# Altium footprint library 贴片.PcbLib: 161 footprints (part 11 of 11)
Each footprint in its own frame and in the unit in brackets; x right, y up, seen from the top. Pads: shape width x height; smd on the part's side, far side on the other; paste and mask are expansions set on the pad; w line width, h text height; cw(c..) or ccw(c..) is an arc to the next point about the centre after c.
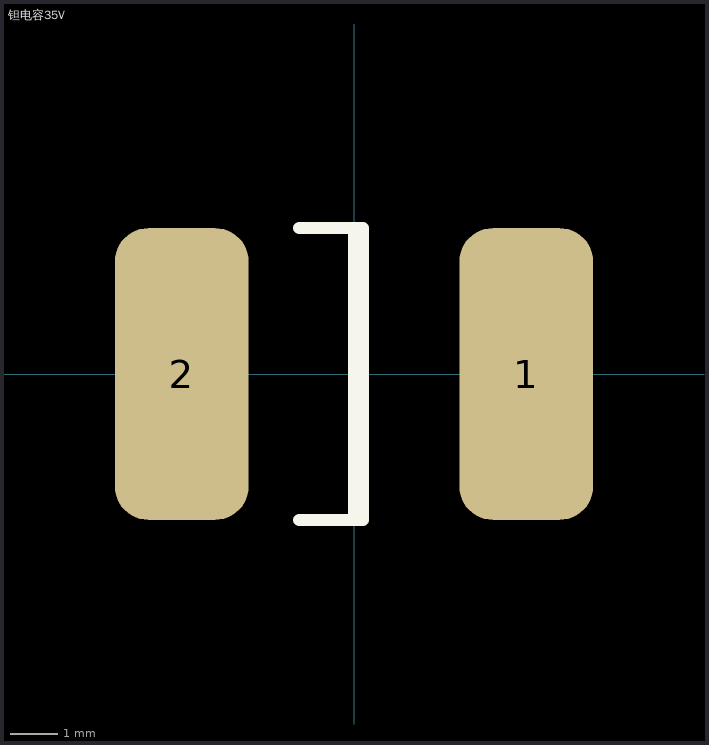
[diagram p10: the footprint, top view; thin cyan lines are the x and y axes]

## 钽电容35V [mm]
pads (2):
  rrect50% 2.8x6.1 smd: 1(3.6,0) 2(-3.6,0)
Top Overlay:
  lines w0.254: -1.143,-3.048 0.191,-3.048 0.191,3.048 -1.143,3.048 ; 0,-2.921 0,2.921
3D body: height 3.45, standoff 0, extent -3.556,-3.048 3.683,3.048